# Altium footprint library CAP.PcbLib: 15 footprints
Each footprint in its own frame and in the unit in brackets; x right, y up, seen from the top. Pads: shape width x height; smd on the part's side, far side on the other; paste and mask are expansions set on the pad; w line width, h text height; cw(c..) or ccw(c..) is an arc to the next point about the centre after c.
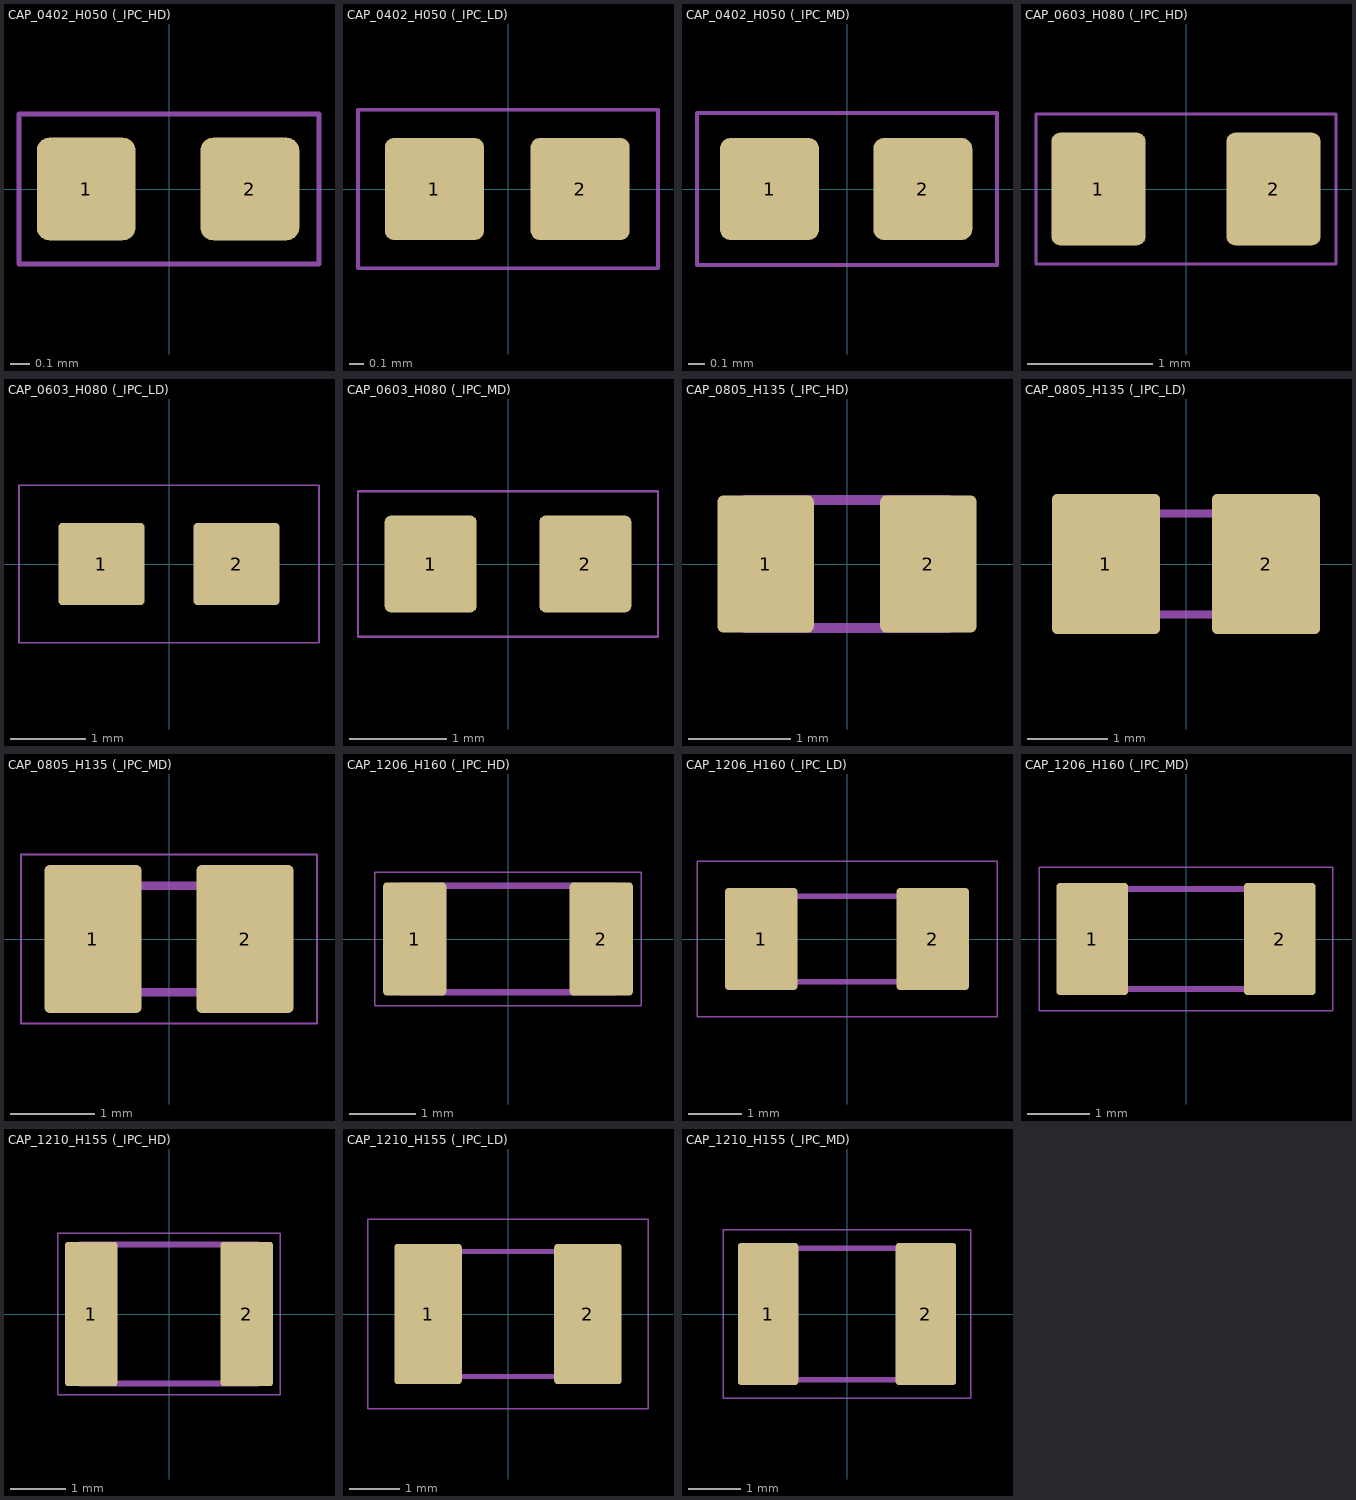
[diagram p0: the footprints below, top view; thin cyan lines are the x and y axes]

## CAP_0402_H050 (_IPC_HD) [mm]
height 0.5
pads (2):
  rrect25% 0.5x0.52 smd paste+0 mask+0.1: 1(-0.42,0) 2(0.41,0)
Mechanical 15:
  lines w0.025: -0.76,-0.38 0.76,-0.38 0.76,0.38 -0.76,0.38 -0.76,-0.38
3D body "CAPC-0402-T0.55-BN.stp": height 0.55, standoff 0, extent -0.525,-0.275 0.525,0.275

## CAP_0402_H050 (_IPC_LD) [mm]
height 0.5
pads (2):
  rrect18% 0.7x0.72 smd paste+0 mask+0.1: 1(-0.52,0) 2(0.51,0)
Mechanical 1:
  lines w0.025: -1.06,-0.56 -1.06,0.56 1.06,0.56 1.06,-0.56 -1.06,-0.56
Mechanical 2:
  text ".Designator" at -0.52,0.56 h0.53
3D body "CAPC-0402-T0.55-BN.stp": height 0.55, standoff 0, extent -0.525,-0.275 0.525,0.275

## CAP_0402_H050 (_IPC_MD) [mm]
height 0.5
pads (2):
  rrect21% 0.6x0.62 smd paste+0 mask+0.1: 1(-0.47,0) 2(0.46,0)
Mechanical 15:
  lines w0.025: -0.91,-0.46 0.91,-0.46 0.91,0.46 -0.91,0.46 -0.91,-0.46
3D body "CAPC-0402-T0.55-BN.stp": height 0.55, standoff 0, extent -0.525,-0.275 0.525,0.275

## CAP_0603_H080 (_IPC_HD) [mm]
height 0.8
pads (2):
  rrect17% 0.75x0.9 smd paste+0 mask+0.1: 1(-0.7,0) 2(0.7,0)
Mechanical 15:
  lines w0.025: -1.2,-0.6 1.2,-0.6 1.2,0.6 -1.2,0.6 -1.2,-0.6
3D body "CAPC-0603-T0.9-BN.stp": height 0.9, standoff 0, extent -0.85,-0.45 0.85,0.45

## CAP_0603_H080 (_IPC_LD) [mm]
height 0.8
pads (2):
  rrect11% 1.15x1.1 smd paste+0 mask+0.1: 1(-0.9,0) 2(0.9,0)
Mechanical 1:
  lines w0.025: -2,-1.05 2,-1.05 2,1.05 -2,1.05 -2,-1.05
Mechanical 2:
  text ".Designator" at -0.9,1.3 h0.53
3D body "CAPC-0603-T0.9-BN.stp": height 0.9, standoff 0, extent -0.85,-0.45 0.85,0.45

## CAP_0603_H080 (_IPC_MD) [mm]
height 0.8
pads (2):
  rrect13% 0.95x1 smd paste+0 mask+0.1: 1(-0.8,0) 2(0.8,0)
Mechanical 15:
  lines w0.025: -1.55,-0.75 1.55,-0.75 1.55,0.75 -1.55,0.75 -1.55,-0.75
3D body "CAPC-0603-T0.9-BN.stp": height 0.9, standoff 0, extent -0.85,-0.45 0.85,0.45

## CAP_0805_H135 (_IPC_HD) [mm]
height 1.35
pads (2):
  rrect13% 0.95x1.35 smd paste+0 mask+0.1: 1(-0.8,0) 2(0.8,0)
Mechanical 2:
  lines w0.102: -1,-0.63 1,-0.63 1,0.63 -1,0.63 -1,-0.63
3D body: height 1.35, standoff 0, extent 0.6,-0.63 1,0.63
3D body: height 1.35, standoff 0, extent -1,-0.63 -0.6,0.63
3D body: height 1.35, standoff 0, extent -0.6,-0.63 0.6,0.63

## CAP_0805_H135 (_IPC_LD) [mm]
height 1.35
pads (2):
  rrect9% 1.35x1.75 smd paste+0 mask+0.1: 1(-1,0) 2(1,0)
Mechanical 2:
  lines w0.102: -1,-0.63 1,-0.63 1,0.63 -1,0.63 -1,-0.63
3D body: height 1.35, standoff 0, extent 0.6,-0.63 1,0.63
3D body: height 1.35, standoff 0, extent -1,-0.63 -0.6,0.63
3D body: height 1.35, standoff 0, extent -0.6,-0.63 0.6,0.63

## CAP_0805_H135 (_IPC_MD) [mm]
height 1.35
pads (2):
  rrect11% 1.15x1.75 smd paste+0 mask+0.1: 1(-0.9,0) 2(0.9,0)
Mechanical 13:
  lines w0.102: -1,-0.63 -1,0.63 1,0.63 1,-0.63 -1,-0.63
Mechanical 15:
  lines w0.025: -1.75,-1 -1.75,1 1.75,1 1.75,-1 -1.75,-1
3D body: height 1.35, standoff 0, extent 0.6,-0.63 1,0.63
3D body: height 1.35, standoff 0, extent -1,-0.63 -0.6,0.63
3D body: height 1.35, standoff 0, extent -0.6,-0.63 0.6,0.63

## CAP_1206_H160 (_IPC_HD) [mm]
height 1.6
pads (2):
  rrect13% 0.95x1.7 smd paste+0 mask+0.1: 1(-1.4,0) 2(1.4,0)
Mechanical 1:
  lines w0.025: -2,-1 -2,1 2,1 2,-1 -2,-1
Mechanical 2:
  lines w0.102: -1.6,-0.8 -1.6,0.8 1.6,0.8 1.6,-0.8 -1.6,-0.8
  text ".Designator" at -1.4,1.2 h0.53
3D body "C1206_170.step": height 1.7, standoff 0, extent -1.6,-0.8 1.6,0.8

## CAP_1206_H160 (_IPC_LD) [mm]
height 1.6
pads (2):
  rrect9% 1.35x1.9 smd paste+0 mask+0.1: 1(-1.6,0) 2(1.6,0)
Mechanical 1:
  lines w0.025: -2.8,-1.45 2.8,-1.45 2.8,1.45 -2.8,1.45 -2.8,-1.45
Mechanical 2:
  lines w0.102: -1.6,-0.8 1.6,-0.8 1.6,0.8 -1.6,0.8 -1.6,-0.8
  text ".Designator" at -1.6,1.7 h0.53
3D body "C1206_170.step": height 1.7, standoff 0, extent -1.6,-0.8 1.6,0.8

## CAP_1206_H160 (_IPC_MD) [mm]
height 1.6
pads (2):
  rrect11% 1.15x1.8 smd paste+0 mask+0.1: 1(-1.5,0) 2(1.5,0)
Mechanical 13:
  lines w0.102: -1.6,-0.8 1.6,-0.8 1.6,0.8 -1.6,0.8 -1.6,-0.8
Mechanical 15:
  lines w0.025: -2.35,-1.15 2.35,-1.15 2.35,1.15 -2.35,1.15 -2.35,-1.15
3D body "C1206_170.step": height 1.7, standoff 0, extent -1.6,-0.8 1.6,0.8

## CAP_1210_H155 (_IPC_HD) [mm]
height 1.55
pads (2):
  rrect13% 0.95x2.6 smd paste+0 mask+0.1: 1(-1.4,0) 2(1.4,0)
Mechanical 1:
  lines w0.025: -2,-1.45 2,-1.45 2,1.45 -2,1.45 -2,-1.45
Mechanical 2:
  lines w0.102: -1.6,-1.25 1.6,-1.25 1.6,1.25 -1.6,1.25 -1.6,-1.25
  text ".Designator" at -1.4,1.9 h0.53
3D body "C1210_170.step": height 1.7, standoff 0, extent -1.6,-1.25 1.6,1.25

## CAP_1210_H155 (_IPC_LD) [mm]
height 1.55
pads (2):
  rrect9% 1.35x2.8 smd paste+0 mask+0.1: 1(-1.6,0) 2(1.6,0)
Mechanical 1:
  lines w0.025: -2.8,-1.9 -2.8,1.9 2.8,1.9 2.8,-1.9 -2.8,-1.9
Mechanical 2:
  lines w0.102: -1.6,-1.25 -1.6,1.25 1.6,1.25 1.6,-1.25 -1.6,-1.25
  text ".Designator" at -1.6,2.1 h0.53
3D body "C1210_170.step": height 1.7, standoff 0, extent -1.6,-1.25 1.6,1.25

## CAP_1210_H155 (_IPC_MD) [mm]
height 1.55
pads (2):
  rrect11% 1.15x2.7 smd paste+0 mask+0.1: 1(-1.5,0) 2(1.5,0)
Mechanical 13:
  lines w0.102: -1.6,-1.25 1.6,-1.25 1.6,1.25 -1.6,1.25 -1.6,-1.25
Mechanical 15:
  lines w0.025: -2.35,-1.6 2.35,-1.6 2.35,1.6 -2.35,1.6 -2.35,-1.6
3D body "C1210_170.step": height 1.7, standoff 0, extent -1.6,-1.25 1.6,1.25